# EAGLE library part SLG59H1120V (library Silego)
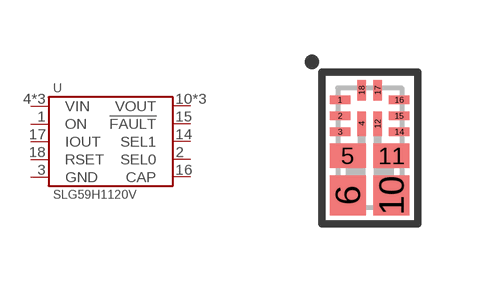
[diagram p0: symbol with the pads of STQFN-18-1.6X3; footprint STQFN-18-1.6X3]

Designator prefix U

## SLG59H1120V  [STQFN-18-1.6X3]
1  ON
2  SEL0
3  GND
4  VIN
5  VIN
6  VIN
10  VOUT
11  VOUT
12  VOUT
14  SEL1
15  !FAULT
16  CAP
17  IOUT
18  RSET

## Footprint STQFN-18-1.6X3 (pad centres in mm)
smd 0.515 x 0.21: 1 -0.741,1.2; 2 -0.741,0.8; 3 -0.741,0.4; 14 0.741,0.4; 15 0.741,0.8; 16 0.741,1.2
smd 0.21 x 0.61: 4 -0.2,0.6; 12 0.2,0.6
smd 0.903 x 0.61: 5 -0.546,-0.2; 11 0.546,-0.2
smd 0.903 x 1.004: 6 -0.546,-1.197; 10 0.546,-1.197
smd 0.21 x 0.515: 17 0.2,1.44; 18 -0.2,1.44